# Altium footprint library pcb lib.PcbLib: 160 footprints (part 10 of 10)
Each footprint in its own frame and in the unit in brackets; x right, y up, seen from the top. Pads: shape width x height; smd on the part's side, far side on the other; paste and mask are expansions set on the pad; w line width, h text height; cw(c..) or ccw(c..) is an arc to the next point about the centre after c.
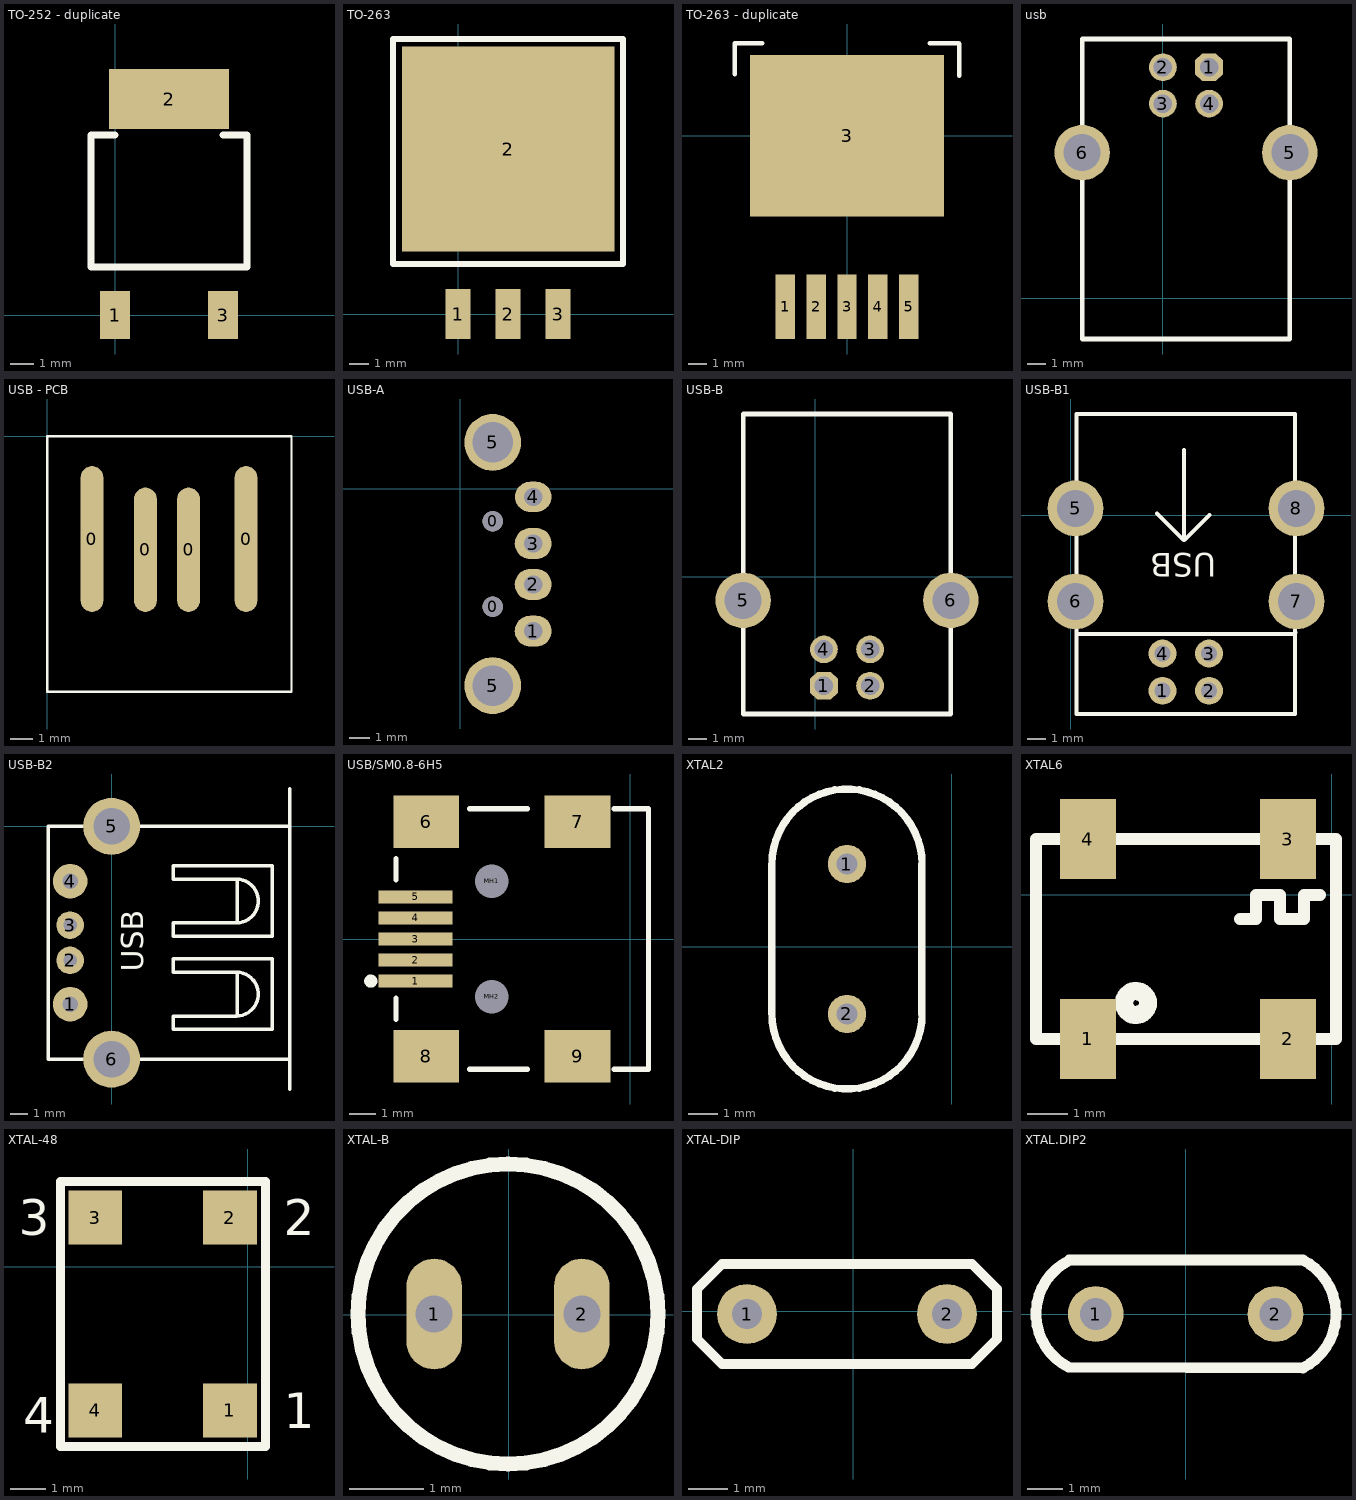
[diagram p9: the footprints below, top view; thin cyan lines are the x and y axes]

## TO-252 - duplicate [mil]
pads (3):
  rect 50x80 smd: 1(0,0) 3(180,0)
  rect 200x100 smd: 2(90,360)
Top Overlay:
  lines w11.81: -40,80 -40,300 0,300 ; 180,300 220,300 220,80
  lines w12: -40,80 220,80

## TO-263 [mil]
pads (4):
  rect 50x100 smd: 1(0,0) 2(100,0) 3(200,0)
  rect 425x410 smd: 2(100,330)
Top Overlay:
  lines w11.81: -130,100 -130,550 330,550 330,100 -130,100

## TO-263 - duplicate [mil]
pads (6):
  rect 42x140 smd: 1(-134,-370) 2(-67,-370) 3(0,-370) 4(67,-370) 5(134,-370)
  rect 420x350 smd: 3(0,0)
Top Overlay:
  lines w10: -243,134 -243,201 -184,201 ; 179,201 242,201 243,200 243,130

## usb [mil]
pads (6):
  oct 60x60 hole 40: 1(99.98,500.85)
  round 60 hole 40: 2(-0.02,500.85) 3(-0.02,422.11) 4(99.98,422.11)
  round 120 hole 80: 5(274.98,315.81) 6(-175.02,315.81)
Top Overlay:
  lines w10: -175.02,-87.89 -175.02,562.11 274.98,562.11 274.98,-87.89 -175.02,-87.89

## USB - PCB [mm]
pads (4):
  oval 1x6.452 smd: 0(1.981,-4.547) 0(8.788,-4.547)
  oval 1x5.5 smd: 0(4.343,-5.023) 0(6.248,-5.023)
Top Overlay:
  lines w0.1: 0,-11.303 0,0 10.795,0 10.795,-11.303 0,-11.303

## USB-A [mm]
pads (8):
  round 1 hole 1: 0(1.607,-5.81) 0(1.607,-1.592)
  oval 1.824x1.524 hole 0.9: 1(3.607,-7.01) 2(3.607,-4.71) 3(3.607,-2.692)
  oval 1.8x1.5 hole 0.9: 4(3.607,-0.392)
  round 2.8 hole 2: 5(1.607,2.299) 5(1.607,-9.701)

## USB-B [mil]
height 68.11
pads (6):
  oct 60x60 hole 40: 1(18.39,-235.84)
  round 60 hole 40: 2(118.39,-235.84) 3(118.39,-157.1) 4(18.39,-157.1)
  round 120 hole 80: 5(-156.61,-50.8) 6(293.39,-50.8)
Top Overlay:
  lines w10: -156.61,-297.1 -156.61,352.9 293.39,352.9 293.39,-297.1 -156.61,-297.1

## USB-B1 [mil]
pads (8):
  round 60 hole 35: 1(197,-377) 2(297,-377) 3(297,-297) 4(197,-297)
  round 120 hole 80: 5(10,15) 6(10,-185) 7(485,-185) 8(485,15)
Top Overlay:
  lines w8: 12,-255 482,-255 483,-251 ; 185,4 241,-52 ; 243,-53 243,141 ; 244,-53 298,1 ; 12,-427 12,218 482,218 482,-427 12,-427
  text "USB" at 312,-81 h50

## USB-B2 [mil]
pads (6):
  round 78.74 hole 35.43: 1(-94.49,-405) 4(-94.49,-125)
  round 62.99 hole 31.5: 2(-94.49,-305) 3(-94.49,-225)
  round 129.92 hole 82.68: 5(0,0) 6(0,-530)
Top Overlay:
  lines w8: 285.51,-430 285.51,-334 ; 285.51,-218 285.51,-122 ; 405.51,-598 405.51,85 ; 405.51,-530 -144.49,-530 -144.49,0 405.51,0 ; 140.51,-462 365.51,-462 365.51,-302 140.51,-302 140.51,-332 284.3,-332 cw(c283.77,-382) 284.3,-432 140.51,-432 140.51,-462 ; 140.51,-250 365.51,-250 365.51,-90 140.51,-90 140.51,-120 284.3,-120 cw(c283.77,-170) 284.3,-220 140.51,-220 140.51,-250
  text "USB" at 71.51,-331 h50

## USB/SM0.8-6H5 [mm]
pads (11):
  rect 2.8x0.5 smd: 1(-8.155,-1.6) 2(-8.155,-0.8) 3(-8.155,0) 4(-8.155,0.8) 5(-8.155,1.6)
  rect 2.5x2 smd: 6(-7.75,4.45) 7(-1.996,4.45) 8(-7.75,-4.45) 9(-1.996,-4.45)
  round 0.6 hole 1.27 unplated: MH1(-5.25,2.2) MH2(-5.25,-2.2)
Top Overlay:
  circle w0.25: c-9.855,-1.6 r0.125
  lines w0.2: -8.9,-3.05 -8.9,-2.25 ; -8.9,2.25 -8.9,3.05 ; -6.1,-4.95 -3.9,-4.95 ; -6.1,4.95 -3.9,4.95 ; -0.6,-4.95 0.7,-4.95 0.7,4.95 -0.6,4.95

## XTAL2 [mil]
pads (2):
  round 51.18 hole 28: 1(-140,110) 2(-140,-90)
Top Overlay:
  lines w10: -240,-90 ccw(c-140,-90) -40,-90 -40,110 ccw(c-140,110) -240,110 -240,-90

## XTAL6 [mm]
pads (4):
  rect 1.4x2 smd: 1(-6.096,-3.603) 2(-1.096,-3.603) 3(-1.096,1.397) 4(-6.096,1.397)
Top Overlay:
  circle w0.254: c-4.896,-2.703 r0.4
  circle w0.254: c-4.896,-2.703 r0.2
  lines w0.305: -2.296,-0.603 -1.896,-0.603 -1.896,-0.003 -1.296,-0.003 -1.296,-0.603 -0.796,-0.603 -0.696,-0.603 -0.696,-0.003 -0.296,-0.003 ; -7.396,-3.603 -7.396,1.397 0.104,1.397 0.104,-3.603 -7.396,-3.603
Multi-Layer:
  text "Comment" at -7.548,2.6 h0.64

## XTAL-48 [mil]
pads (4):
  rect 60x60 smd: 1(-20,-160) 2(-20,55) 3(-170,55) 4(-170,-160)
Top Overlay:
  lines w10: -208.71,-200 -208.71,95 -5,95 20,95 20,-200 -8.1,-200 -208.71,-200
  text "1" at 40,-180 h39.37
  text "2" at 40,35 h39.37
  text "3" at -255,35 h39.37
  text "4" at -250,-185 h39.37

## XTAL-B [mm]
pads (2):
  oval 0.75x1.5 hole 0.5: 1(-1.011,0.008) 2(0.989,0.008)
Top Overlay:
  circle w0.2: c-0.011,0.008 r2.032

## XTAL-DIP [mil]
pads (2):
  round 60 hole 30: 1(-106,-3) 2(94,-3)
Top Overlay:
  lines w10: -156,-28 -131,-53 119,-53 144,-28 144,22 119,47 -131,47 -156,22 -156,-28

## XTAL.DIP2 [mil]
pads (2):
  round 62 hole 35.43: 1(-100,0) 2(100,0)
Top Overlay:
  lines w12: -130.04,59.28 ccw(c-100,0) -130.04,-59.28 130.54,-59.99 ccw(c100,0) 130.54,59.99 -129.42,60.22